# EAGLE library part TPS54560 (library LARS_409_DC-DC)
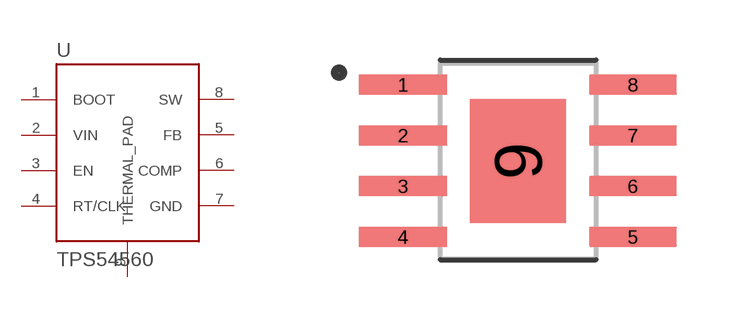
[diagram p3: symbol with the pads of HSOIC(8); footprint HSOIC(8)]

Designator prefix -

## TPS54560  [HSOIC(8)]
1  BOOT  out
2  VIN  pwr
3  EN  in
4  RT/CLK  in
5  FB  in
6  COMP  out
7  GND  pwr
8  SW  in
9  THERMAL_PAD  pwr

## Footprint HSOIC(8) (pad centres in mm)
smd 2.2 x 0.5: 1 -2.875,1.905; 2 -2.875,0.635; 3 -2.875,-0.635; 4 -2.875,-1.905; 5 2.875,-1.905; 6 2.875,-0.635; 7 2.875,0.635; 8 2.875,1.905
smd 2.4 x 3.1: 9 0,0